# EAGLE library part G6J*-2?-Y (library relay-mod)
Surface-Mounting Signal Relay - G6J-Y 5.7 x 10.6 x 9 mm Source: http://www.omroncomponents.eu/ .. K125-E2-02-X.pdf
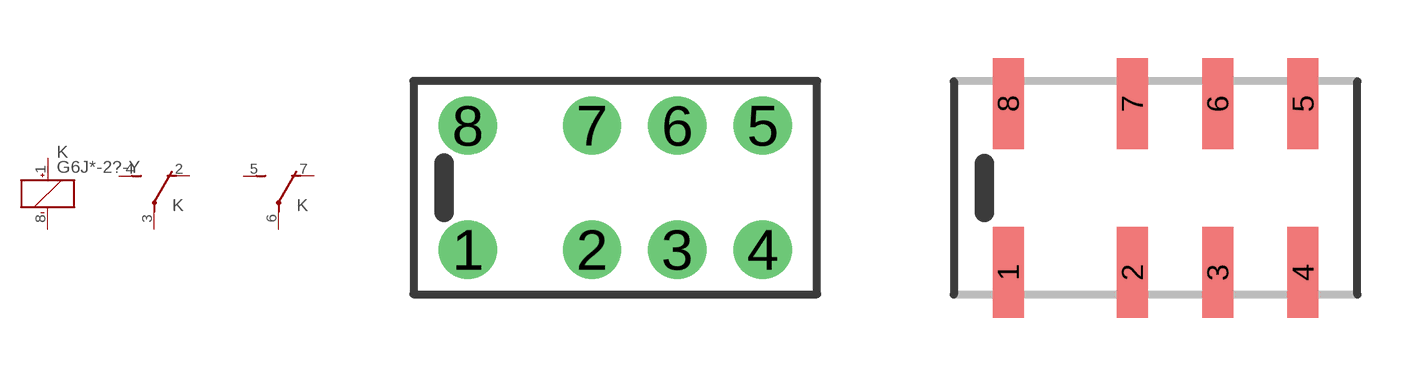
[diagram p142: symbol with the pads of G6J-2P-Y; footprints G6J-2P-Y, G6J-2FS-Y]

Designator prefix K; gates 1=K+- 2=U 3=U

## G6J-2P-Y (MF: OMRON COMPONENTS USA; MPN: G6J-2P-Y-DC12; OC_FARNELL: unknown; OC_NEWARK: 70J9830), G6JU-2P-Y (MF: OMRON COMPONENTS USA; MPN: G6JU-2P-Y-DC12; OC_FARNELL: unknown; OC_NEWARK: 70J9842)  [G6J-2P-Y]
1  1:+  pas
2  2:O  pas
3  2:P  pas
4  2:S  pas
5  3:S  pas
6  3:P  pas
7  3:O  pas
8  1:-  pas

## G6J-2FS-Y (MPN: G6J-2FS-Y DC4.5; OC_FARNELL: unknown; OC_NEWARK: 04M9910), G6JU-2FS-Y (OC_FARNELL: unknown; OC_NEWARK: unknown)  [G6J-2FS-Y]
Pads as for G6J-2P-Y

## G6J-2FL-Y (MPN: G6J-2FL-Y-TR DC4.5; OC_FARNELL: 1798618; OC_NEWARK: 04M9907), G6JU-2FL-Y (MPN: G6JU-2FL-Y DC3; OC_FARNELL: unknown; OC_NEWARK: 04M9916)  [G6J-2FL-Y]
Pads as for G6J-2P-Y

## Footprint G6J-2P-Y (pad centres in mm)
Signal Relay - G6J-Y 5.7 x 10.6 x 9 mm Source: http://www.omroncomponents.eu/ .. K125-E2-02-X.pdf
drill 0.9 pad 1.5: 1 -3.2,-1.6; 2 0,-1.6; 3 2.2,-1.6; 4 4.4,-1.6; 5 4.4,1.6; 6 2.2,1.6; 7 0,1.6; 8 -3.2,1.6

## Footprint G6J-2FS-Y (pad centres in mm)
Signal Relay - G6J-Y 5.7 x 10.6 x 9 mm Source: http://www.omroncomponents.eu/ .. K125-E2-02-X.pdf
smd 0.8 x 2.35: 1 -3.2,-2.175; 2 0,-2.175; 3 2.2,-2.175; 4 4.4,-2.175; 5 4.4,2.175; 6 2.2,2.175; 7 0,2.175; 8 -3.2,2.175

## Footprint G6J-2FL-Y (pad centres in mm)
Signal Relay - G6J-Y 5.7 x 10.6 x 9 mm Source: http://www.omroncomponents.eu/ .. K125-E2-02-X.pdf
smd 0.8 x 3.2: 1 -3.2,-2.6; 2 0,-2.6; 3 2.2,-2.6; 4 4.4,-2.6; 5 4.4,2.6; 6 2.2,2.6; 7 0,2.6; 8 -3.2,2.6